# Altium footprint library Diode_SMD.PcbLib: 76 footprints (part 2 of 5)
Each footprint in its own frame and in the unit in brackets; x right, y up, seen from the top. Pads: shape width x height; smd on the part's side, far side on the other; paste and mask are expansions set on the pad; w line width, h text height; cw(c..) or ccw(c..) is an arc to the next point about the centre after c.
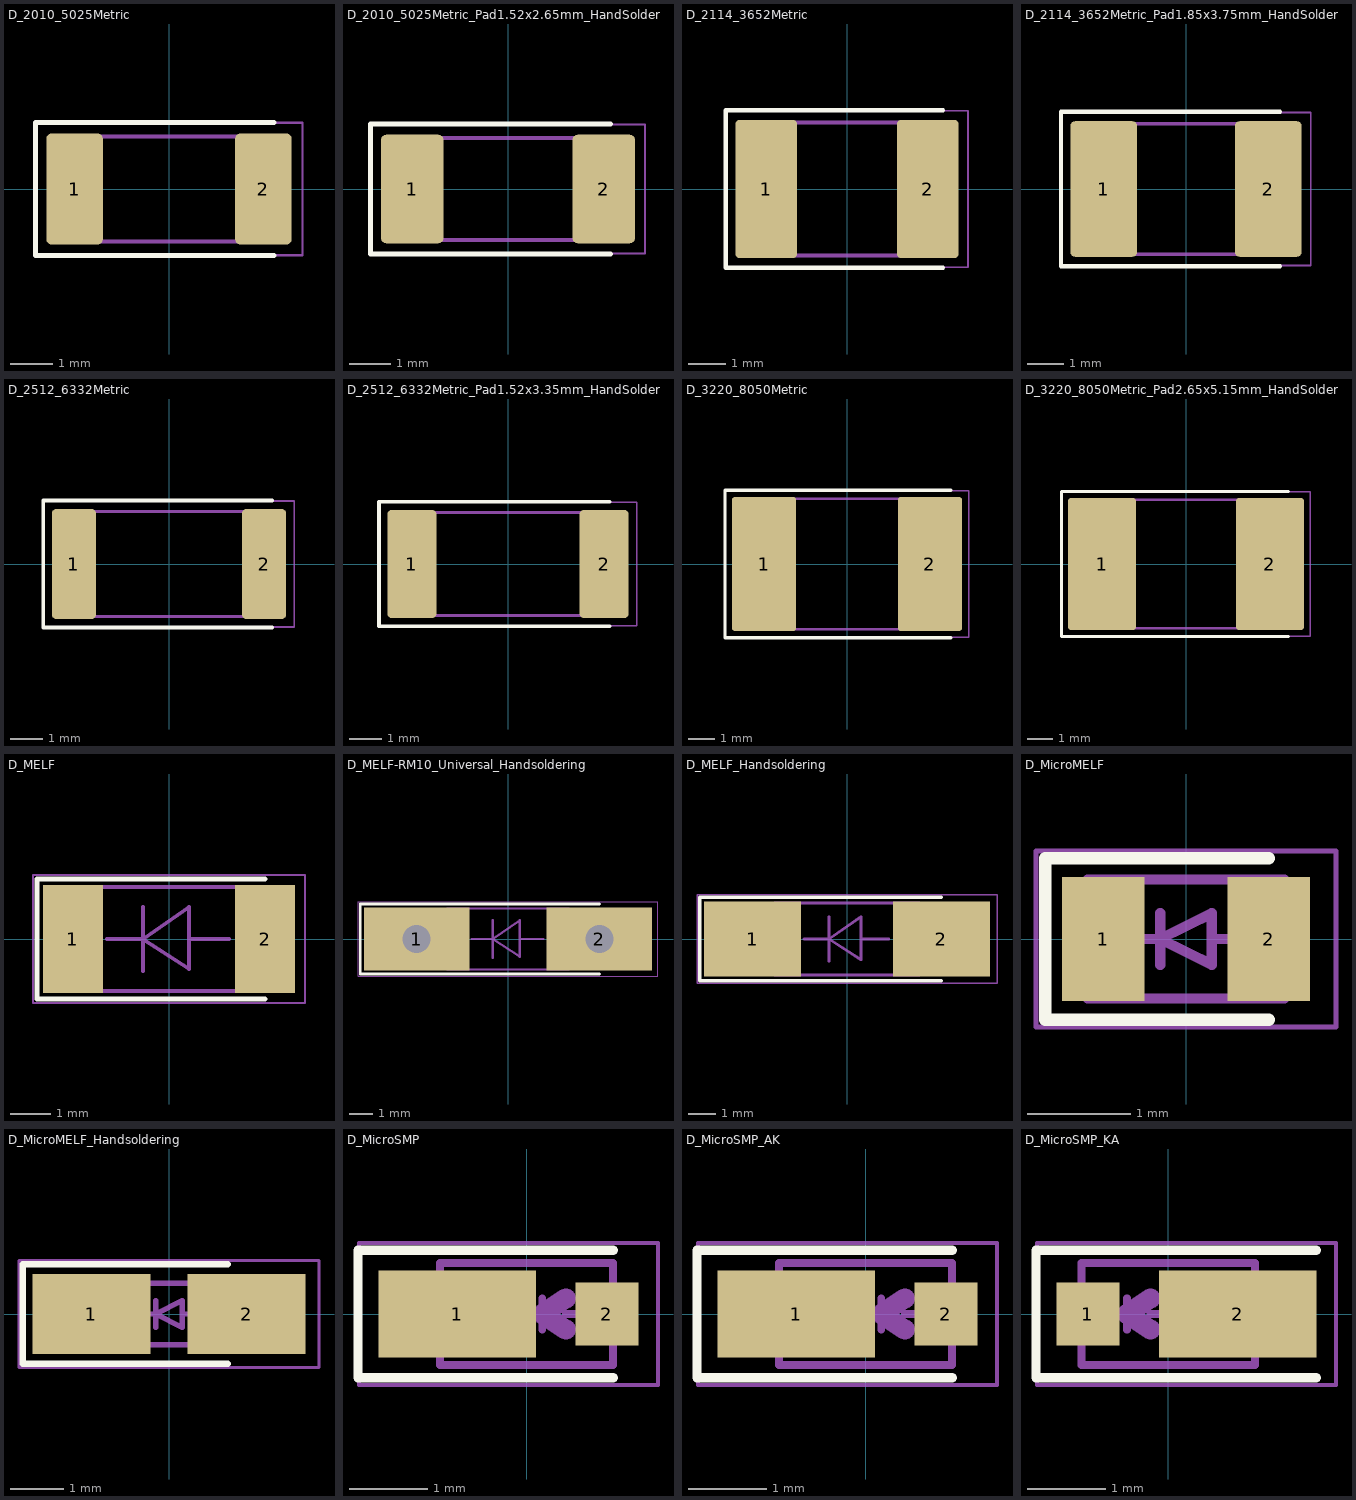
[diagram p1: the footprints below, top view; thin cyan lines are the x and y axes]

## D_2010_5025Metric [mm]
pads (2):
  rrect19% 1.35x2.65 smd: 1(-2.25,0) 2(2.25,0)
F.SilkS:
  lines w0.12: 2.5,-1.585 -3.185,-1.585 -3.185,1.585 2.5,1.585
F.CrtYd:
  lines w0.05: -3.18,-1.58 3.18,-1.58 3.18,1.58 -3.18,1.58 -3.18,-1.58
F.Fab:
  lines w0.1: -2.5,-1.25 -2.5,0.625 -1.875,1.25 2.5,1.25 2.5,-1.25 -2.5,-1.25
  text "'.Designator'" at -4.047,-0.84 h1
3D body "D_2010_5025Metric.step": height 0.96, standoff 0, extent -2.25,-1.075 2.25,1.075

## D_2010_5025Metric_Pad1.52x2.65mm_HandSolder [mm]
pads (2):
  rrect16% 1.525x2.65 smd: 1(-2.338,0) 2(2.338,0)
F.SilkS:
  lines w0.12: 2.5,-1.585 -3.36,-1.585 -3.36,1.585 2.5,1.585
F.CrtYd:
  lines w0.05: -3.35,-1.58 3.35,-1.58 3.35,1.58 -3.35,1.58 -3.35,-1.58
F.Fab:
  lines w0.1: -2.5,-1.25 -2.5,0.625 -1.875,1.25 2.5,1.25 2.5,-1.25 -2.5,-1.25
  text "'.Designator'" at -4.047,-0.84 h1
3D body "D_2010_5025Metric.step": height 0.96, standoff 0, extent -2.25,-1.075 2.25,1.075

## D_2114_3652Metric [mm]
pads (2):
  rrect15% 1.675x3.75 smd: 1(-2.187,0) 2(2.187,0)
F.SilkS:
  lines w0.12: 2.6,-2.135 -3.285,-2.135 -3.285,2.135 2.6,2.135
F.CrtYd:
  lines w0.05: -3.28,-2.12 3.28,-2.12 3.28,2.12 -3.28,2.12 -3.28,-2.12
F.Fab:
  lines w0.1: -2.6,-1.8 -2.6,0.9 -1.7,1.8 2.6,1.8 2.6,-1.8 -2.6,-1.8
  text "'.Designator'" at -4.047,-0.84 h1
3D body "D_2114_3652Metric.step": height 1.05, standoff 0, extent -2.6,-1.775 2.6,1.775

## D_2114_3652Metric_Pad1.85x3.75mm_HandSolder [mm]
pads (2):
  rrect14% 1.85x3.75 smd: 1(-2.275,0) 2(2.275,0)
F.SilkS:
  lines w0.12: 2.6,-2.135 -3.46,-2.135 -3.46,2.135 2.6,2.135
F.CrtYd:
  lines w0.05: -3.45,-2.12 -3.45,2.12 3.45,2.12 3.45,-2.12 -3.45,-2.12
F.Fab:
  lines w0.1: -2.6,-1.8 -2.6,0.9 -1.7,1.8 2.6,1.8 2.6,-1.8 -2.6,-1.8
  text "'.Designator'" at -4.047,-0.84 h1
3D body "D_2114_3652Metric.step": height 1.05, standoff 0, extent -2.6,-1.775 2.6,1.775

## D_2512_6332Metric [mm]
pads (2):
  rrect19% 1.35x3.35 smd: 1(-2.9,0) 2(2.9,0)
F.SilkS:
  lines w0.12: 3.15,-1.935 -3.835,-1.935 -3.835,1.935 3.15,1.935
F.CrtYd:
  lines w0.05: -3.82,-1.92 3.82,-1.92 3.82,1.92 -3.82,1.92 -3.82,-1.92
F.Fab:
  lines w0.1: -3.15,-1.6 3.15,-1.6 3.15,1.6 -2.35,1.6 -3.15,0.8 -3.15,-1.6
  text "'.Designator'" at -4.047,-0.84 h1

## D_2512_6332Metric_Pad1.52x3.35mm_HandSolder [mm]
pads (2):
  rrect16% 1.525x3.35 smd: 1(-2.987,0) 2(2.987,0)
F.SilkS:
  lines w0.12: 3.15,-1.935 -4.01,-1.935 -4.01,1.935 3.15,1.935
F.CrtYd:
  lines w0.05: -4,-1.92 -4,1.92 4,1.92 4,-1.92 -4,-1.92
F.Fab:
  lines w0.1: -3.15,-1.6 -3.15,0.8 -2.35,1.6 3.15,1.6 3.15,-1.6 -3.15,-1.6
  text "'.Designator'" at -4.047,-0.84 h1

## D_3220_8050Metric [mm]
pads (2):
  rrect10% 2.475x5.15 smd: 1(-3.187,0) 2(3.187,0)
F.SilkS:
  lines w0.12: 4,-2.835 -4.685,-2.835 -4.685,2.835 4,2.835
F.CrtYd:
  lines w0.05: -4.68,-2.82 4.68,-2.82 4.68,2.82 -4.68,2.82 -4.68,-2.82
F.Fab:
  lines w0.1: -4,-2.5 4,-2.5 4,2.5 -3,2.5 -4,1.5 -4,-2.5
  text "'.Designator'" at -4.047,-0.84 h1
3D body "D_3220_8050Metric.step": height 1.05, standoff 0, extent -4,-2.475 4,2.475

## D_3220_8050Metric_Pad2.65x5.15mm_HandSolder [mm]
pads (2):
  rrect9% 2.65x5.15 smd: 1(-3.275,0) 2(3.275,0)
F.SilkS:
  lines w0.12: 4,-2.835 -4.86,-2.835 -4.86,2.835 4,2.835
F.CrtYd:
  lines w0.05: -4.85,-2.82 4.85,-2.82 4.85,2.82 -4.85,2.82 -4.85,-2.82
F.Fab:
  lines w0.1: -4,-2.5 -4,1.5 -3,2.5 4,2.5 4,-2.5 -4,-2.5
  text "'.Designator'" at -4.047,-0.84 h1
3D body "D_3220_8050Metric.step": height 1.05, standoff 0, extent -4,-2.475 4,2.475

## D_MELF [mm]
pads (2):
  rect 1.5x2.7 smd: 1(-2.4,0) 2(2.4,0)
F.SilkS:
  lines w0.12: 2.4,-1.5 -3.3,-1.5 -3.3,1.5 2.4,1.5
F.CrtYd:
  lines w0.05: -3.4,-1.6 -3.4,1.6 3.4,1.6 3.4,-1.6 -3.4,-1.6
F.Fab:
  lines w0.1: -1.551,-0.001 -0.649,-0.001 ; -0.649,-0.801 -0.649,0.799 ; 0.501,-0.001 1.499,-0.001 ; -0.649,-0.001 0.501,-0.75 0.501,0.799 -0.649,-0.001 ; -2.6,-1.3 2.6,-1.3 2.6,1.3 -2.6,1.3 -2.6,-1.3
  text "'.Designator'" at -4.047,1.66 h1
3D body "D_MELF.step": height 2.2, standoff 0, extent -2.9,-1.092 2.9,1.092

## D_MELF-RM10_Universal_Handsoldering [mm]
pads (2):
  rect 4.5x2.7 hole 1.199: 1(-3.9,0) 2(3.9,0)
F.SilkS:
  lines w0.12: 3.9,-1.5 -6.3,-1.5 -6.3,1.5 3.9,1.5
F.CrtYd:
  lines w0.05: -6.4,-1.6 6.4,-1.6 6.4,1.6 -6.4,1.6 -6.4,-1.6
F.Fab:
  lines w0.1: -1.551,-0.001 -0.649,-0.001 ; -0.649,-0.801 -0.649,0.799 ; 0.501,-0.001 1.499,-0.001 ; -0.649,-0.001 0.501,0.799 0.501,-0.75 -0.649,-0.001 ; -2.6,-1.3 -2.6,1.3 2.6,1.3 2.6,-1.3 -2.6,-1.3
  text "'.Designator'" at -4.047,1.66 h1

## D_MELF_Handsoldering [mm]
pads (2):
  rect 3.5x2.7 smd: 1(-3.4,0) 2(3.4,0)
F.SilkS:
  lines w0.12: 3.4,-1.5 -5.3,-1.5 -5.3,1.5 3.4,1.5
F.CrtYd:
  lines w0.05: -5.4,-1.6 5.4,-1.6 5.4,1.6 -5.4,1.6 -5.4,-1.6
F.Fab:
  lines w0.1: -1.551,-0.001 -0.649,-0.001 ; -0.649,-0.801 -0.649,0.799 ; 0.501,-0.001 1.499,-0.001 ; -0.649,-0.001 0.501,0.799 0.501,-0.75 -0.649,-0.001 ; -2.6,-1.3 2.6,-1.3 2.6,1.3 -2.6,1.3 -2.6,-1.3
  text "'.Designator'" at -4.047,1.41 h1
3D body "D_MELF.step": height 2.2, standoff 0, extent -2.9,-1.092 2.9,1.092

## D_MicroMELF [mm]
pads (2):
  rect 0.8x1.2 smd: 1(-0.8,0) 2(0.8,0)
F.SilkS:
  lines w0.12: 0.8,-0.78 -1.36,-0.78 -1.36,0.78 0.8,0.78
F.CrtYd:
  lines w0.05: -1.45,-0.85 1.45,-0.85 1.45,0.85 -1.45,0.85 -1.45,-0.85
F.Fab:
  lines w0.1: -0.75,0 -0.25,0 ; -0.25,-0.25 -0.25,0.25 ; 0.25,0 0.75,0 ; -0.25,0 0.25,0.25 0.25,-0.25 -0.25,0 ; -0.95,-0.575 0.95,-0.575 0.95,0.575 -0.95,0.575 -0.95,-0.575
  text "'.Designator'" at -4.047,0.66 h1
3D body "D_MicroMELF.step": height 1.1, standoff 0, extent -1.1,-0.546 1.1,0.546

## D_MicroMELF_Handsoldering [mm]
pads (2):
  rect 2.2x1.5 smd: 1(-1.45,0) 2(1.45,0)
F.SilkS:
  lines w0.12: 1.1,-0.93 -2.73,-0.93 -2.73,0.93 1.1,0.93
F.CrtYd:
  lines w0.05: -2.8,-1 -2.8,1 2.8,1 2.8,-1 -2.8,-1
F.Fab:
  lines w0.1: -0.75,0 -0.25,0 ; -0.25,-0.25 -0.25,0.25 ; 0.25,0 0.75,0 ; -0.25,0 0.25,-0.25 0.25,0.25 -0.25,0 ; -0.95,-0.575 -0.95,0.575 0.95,0.575 0.95,-0.575 -0.95,-0.575
  text "'.Designator'" at -4.047,0.66 h1
3D body "D_MicroMELF.step": height 1.1, standoff 0, extent -1.1,-0.546 1.1,0.546

## D_MicroSMP [mm]
pads (2):
  rect 2x1.1 smd: 1(-0.88,0)
  rect 0.8x0.8 smd: 2(1.02,0)
F.SilkS:
  lines w0.12: 1.1,-0.81 -2.14,-0.81 -2.14,0.81 1.1,0.81
F.CrtYd:
  lines w0.05: -2.13,-0.9 1.67,-0.9 1.67,0.9 -2.13,0.9 -2.13,-0.9
F.Fab:
  lines w0.1: -0.9,0 0.2,0 ; 0.2,-0.2 0.2,0.2 ; 0.5,0 0.9,0 ; -1.1,-0.65 -1.1,0.65 1.1,0.65 1.1,-0.65 -1.1,-0.65
  lines w0.254: 0.5,-0.2 0.2,0 0.5,0.2
  text "'.Designator'" at -4.047,0.71 h1

## D_MicroSMP_AK [mm]
pads (2):
  rect 2x1.1 smd: 1(-0.88,0)
  rect 0.8x0.8 smd: 2(1.02,0)
F.SilkS:
  lines w0.12: 1.1,-0.81 -2.14,-0.81 -2.14,0.81 1.1,0.81
F.CrtYd:
  lines w0.05: -2.13,-0.9 -2.13,0.9 1.67,0.9 1.67,-0.9 -2.13,-0.9
F.Fab:
  lines w0.1: -0.9,0 0.2,0 ; 0.2,-0.2 0.2,0.2 ; 0.5,0 0.9,0 ; -1.1,-0.65 1.1,-0.65 1.1,0.65 -1.1,0.65 -1.1,-0.65
  lines w0.254: 0.5,-0.2 0.2,0 0.5,0.2
  text "'.Designator'" at -4.047,0.71 h1

## D_MicroSMP_KA [mm]
pads (2):
  rect 0.8x0.8 smd: 1(-1.02,0)
  rect 2x1.1 smd: 2(0.88,0)
F.SilkS:
  lines w0.12: 1.88,-0.81 -1.68,-0.81 -1.68,0.81 1.88,0.81
F.CrtYd:
  lines w0.05: -1.67,-0.9 2.13,-0.9 2.13,0.9 -1.67,0.9 -1.67,-0.9
F.Fab:
  lines w0.1: -0.8,0 -0.525,0 ; -0.525,-0.2 -0.525,0.2 ; -0.225,0 0.8,0 ; -1.1,-0.65 -1.1,0.65 1.1,0.65 1.1,-0.65 -1.1,-0.65
  lines w0.254: -0.225,-0.2 -0.525,0 -0.225,0.2
  text "'.Designator'" at -4.047,0.71 h1